# EAGLE library part MCP41010-X/P (library Potentiometer)
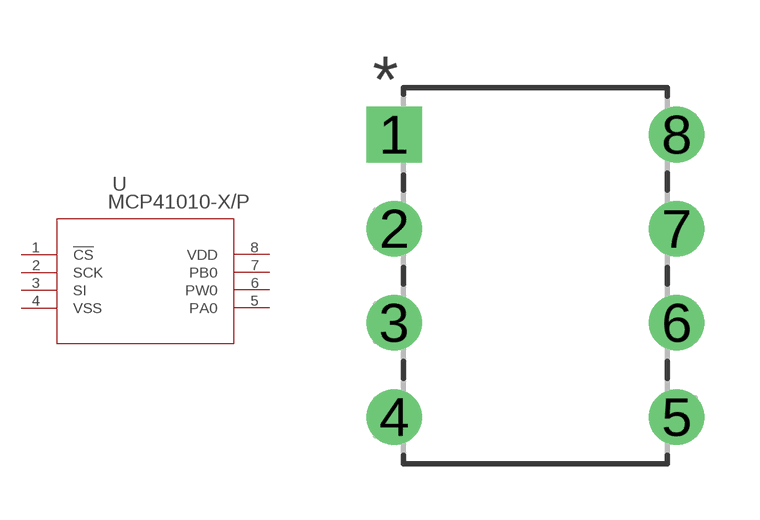
[diagram p0: symbol with the pads of PDIP8_300MC; footprint PDIP8_300MC]

Designator prefix -

## MCP41010-X/P  [PDIP8_300MC]
1  !CS  pas
2  SCK  pas
3  SI  pas
4  VSS  pas
5  PA0  pas
6  PW0  pas
7  PB0  pas
8  VDD  pas

## Footprint PDIP8_300MC (pad centres in mm)
drill 0.991 pad 1.499 square: 1 -7.62,7.62
drill 0.991 pad 1.499: 2 -7.62,5.08; 3 -7.62,2.54; 4 -7.62,0; 5 0,0; 6 0,2.54; 7 0,5.08; 8 0,7.62